# EAGLE library part 62004021821 (library Board-to-Board (rev18a))
WR-PHD 2.00mm Dual Socket Header, 40 Pins=>Code : Con_BTB_SHD_2.00_2_62004021821 <http://katalog.we-online.de/media/thumbs2/eican/thb_Con_BTB_SHD_2.00_2_6200xx21821_pf2.jpg> Details see: http://katalog.we-online.de/en/em/PHD_2_00_DUAL_SOCKET_HEADER_6200XX21821 Created 2014-06-03, Karrer Zheng 2014 (C) Würth Elektronik
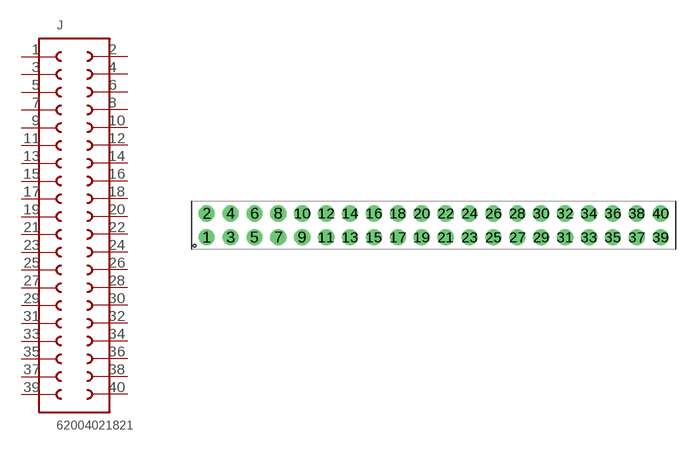
[diagram p253: symbol with the pads of 62004021821; footprint 62004021821]

Designator prefix J

## 62004021821  [62004021821]
1  1  pas
2  40  pas
3  2  pas
4  39  pas
5  3  pas
6  38  pas
7  4  pas
8  37  pas
9  5  pas
10  36  pas
11  6  pas
12  35  pas
13  7  pas
14  34  pas
15  8  pas
16  33  pas
17  9  pas
18  32  pas
19  10  pas
20  31  pas
21  11  pas
22  30  pas
23  12  pas
24  29  pas
25  13  pas
26  28  pas
27  14  pas
28  27  pas
29  15  pas
30  26  pas
31  16  pas
32  25  pas
33  17  pas
34  24  pas
35  18  pas
36  23  pas
37  19  pas
38  22  pas
39  20  pas
40  21  pas

## Footprint 62004021821 (pad centres in mm)
WR-PHD 2.00mm Dual Socket Header, 40 Pins
drill 0.85: 1 -19,-1; 2 -19,1; 3 -17,-1; 4 -17,1; 5 -15,-1; 6 -15,1; 7 -13,-1; 8 -13,1; 9 -11,-1; 10 -11,1; 11 -9,-1; 12 -9,1; 13 -7,-1; 14 -7,1; 15 -5,-1; 16 -5,1; 17 -3,-1; 18 -3,1; 19 -1,-1; 20 -1,1; 21 1,-1; 22 1,1; 23 3,-1; 24 3,1; 25 5,-1; 26 5,1; 27 7,-1; 28 7,1; 29 9,-1; 30 9,1; 31 11,-1; 32 11,1; 33 13,-1; 34 13,1; 35 15,-1; 36 15,1; 37 17,-1; 38 17,1; 39 19,-1; 40 19,1